# Altium footprint library DIP LCD.PcbLib: 4 footprints
Each footprint in its own frame and in the unit in brackets; x right, y up, seen from the top. Pads: shape width x height; smd on the part's side, far side on the other; paste and mask are expansions set on the pad; w line width, h text height; cw(c..) or ccw(c..) is an arc to the next point about the centre after c.
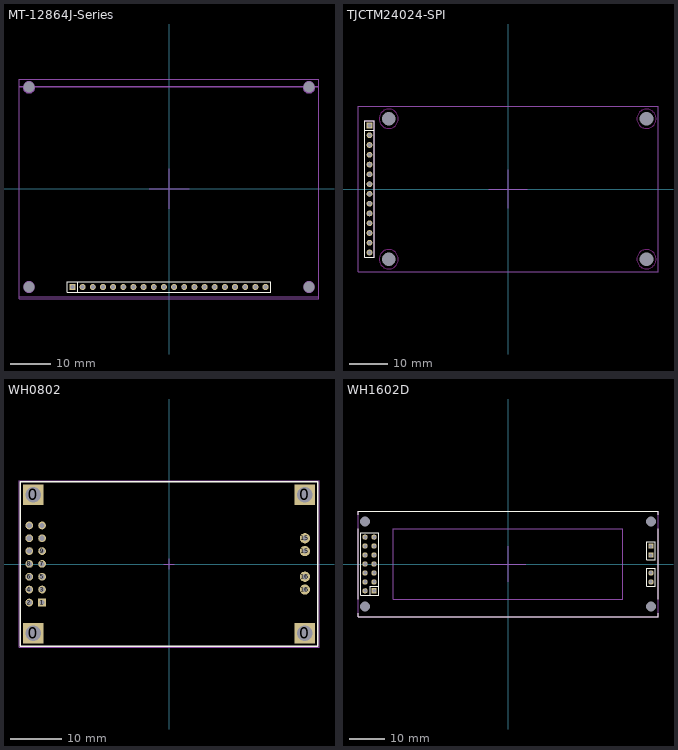
[diagram p0: the footprints below, top view; thin cyan lines are the x and y axes]

## MT-12864J-Series [mm]
height 14
pads (24):
  round 0 hole 2.7 unplated: 0(-35,25.5) 0(-35,-24.5) 0(35,-24.5) 0(35,25.5)
  rect 1.5x1.5 hole 1: 1(-24.13,-24.5)
  round 1.5 hole 1: 2(-21.59,-24.5) 3(-19.05,-24.5) 4(-16.51,-24.5) 5(-13.97,-24.5) 6(-11.43,-24.5) 7(-8.89,-24.5) 8(-6.35,-24.5) 9(-3.81,-24.5) 10(-1.27,-24.5) 11(1.27,-24.5) 12(3.81,-24.5) 13(6.35,-24.5) 14(8.89,-24.5) 15(11.43,-24.5) 16(13.97,-24.5) 17(16.51,-24.5) 18(19.05,-24.5) 19(21.59,-24.5) 20(24.13,-24.5)
Top Overlay:
  lines w0.125: -22.86,-25.77 -22.86,-23.23 ; -25.4,-25.77 25.4,-25.77 25.4,-23.23 -25.4,-23.23 -25.4,-25.77
Mechanical 13:
  lines w0.1: -37.5,-27.5 -37.5,25.5 -36.5,25.5 ccw(c-35,25.5) -33.5,25.5 33.5,25.5 ccw(c35,25.5) 36.5,25.5 37.5,25.5 37.5,-27.5 -37.5,-27.5 ; -37.5,-27 -37.5,25.75 37.5,25.75 37.5,-27 -37.5,-27
Mechanical 15:
  circle w0.1: c-35,25.5 r1.35
  circle w0.1: c35,25.5 r1.35
  circle w0.1: c35,-24.5 r1.35
  circle w0.1: c-35,-24.5 r1.35
  lines w0.1: -5,0 5,0 ; 0,-5 0,5 ; -37.5,-27.5 37.5,-27.5 37.5,27.5 -37.5,27.5 -37.5,-27.5
3D body: height -7.4, standoff -15.9, extent -37.5,-27 37.5,25.7
3D body: height 8.9, standoff -2.9, extent 15.16,-25.77 25.32,-23.23
3D body: height 8.9, standoff -2.9, extent -5.08,-25.77 15.24,-23.23
3D body: height 8.9, standoff -2.9, extent -25.4,-25.77 -5.08,-23.23

## TJCTM24024-SPI [mm]
height 15
pads (18):
  round 0.1 hole 3.6 unplated: 0(-31,-18.25) 0(-31,18.25) 0(36,-18.25) 0(36,18.25)
  rect 1.5x1.5 hole 1: 1(-36,16.51)
  round 1.5 hole 1: 2(-36,13.97) 3(-36,11.43) 4(-36,8.89) 5(-36,6.35) 6(-36,3.81) 7(-36,1.27) 8(-36,-1.27) 9(-36,-3.81) 10(-36,-6.35) 11(-36,-8.89) 12(-36,-11.43) 13(-36,-13.97) 14(-36,-16.51)
Top Overlay:
  lines w0.2: -37.27,15.24 -34.73,15.24 ; -37.27,-17.78 -37.27,17.78 -34.73,17.78 -34.73,-17.78 -37.27,-17.78
Keep-Out Layer:
  circle w0.1: c-31,-18.25 r2.5
  circle w0.1: c-31,18.25 r2.5
  circle w0.1: c36,18.25 r2.5
  circle w0.1: c36,-18.25 r2.5
Mechanical 13:
  lines w0.1: -37.27,15.24 -34.73,15.24 ; -37.27,-17.78 -37.27,17.78 -34.73,17.78 -34.73,-17.78 -37.27,-17.78
Mechanical 15:
  lines w0.1: -5,0 5,0 ; 0,-5 0,5 ; -39,-21.5 39,-21.5 39,21.5 -39,21.5 -39,-21.5

## WH0802 [mm]
height 14
pads (22):
  rect 4x4 hole 3: 0(-26.5,-13.5) 0(-26.5,13.5) 0(26.5,-13.5) 0(26.5,13.5)
  rect 1.5x1.5 hole 1: 1(-24.75,-7.52)
  round 1.5 hole 1: 2(-27.25,-7.52) 3(-24.75,-4.98) 4(-27.25,-4.98) 5(-24.75,-2.48) 6(-27.25,-2.48) 7(-24.75,0.02) 8(-27.25,0.02) 9(-24.75,2.52) 10(-27.25,2.52) 11(-24.75,5.02) 12(-27.25,5.02) 13(-24.75,7.52) 14(-27.25,7.52)
  round 2 hole 1: 15(26.5,2.52) 15(26.5,5.02) 16(26.5,-4.98) 16(26.5,-2.48)
Top Overlay:
  lines w0.25: -29,-16 29,-16 29,16 -29,16 -29,-16
Mechanical 15:
  lines w0.1: -1,0 1,0 ; 0,-1 0,1 ; -29.25,-16.25 29.25,-16.25 29.25,16.25 -29.25,16.25 -29.25,-16.25
3D body: height 16.4, standoff 2.9, extent -29,-16 29,16
3D body: height 8.9, standoff -2.9, extent 25.23,-6.31 27.77,-1.23
3D body: height 8.9, standoff -2.9, extent -26,-8.81 -23.46,-1.19
3D body: height 8.9, standoff -2.9, extent -28.54,-8.81 -26,-1.19
3D body: height 8.9, standoff -2.9, extent -28.54,-1.33 -26,8.83
3D body: height 8.9, standoff -2.9, extent -26,-1.33 -23.46,8.83
3D body: height 8.9, standoff -2.9, extent 25.23,1.19 27.77,6.27

## WH1602D [mm]
height 14
pads (22):
  round 0 hole 2.8 unplated: 0(-40.5,-12) 0(-40.5,12) 0(40.5,-12) 0(40.5,12)
  rect 1.5x1.5 hole 1: 1(-37.96,-7.62) 15(40.5,2.54) 15(40.5,5.08)
  round 1.5 hole 1: 2(-40.5,-7.62) 3(-37.96,-5.08) 4(-40.5,-5.08) 5(-37.96,-2.54) 6(-40.5,-2.54) 7(-37.96,0) 8(-40.5,0) 9(-37.96,2.54) 10(-40.5,2.54) 11(-37.96,5.08) 12(-40.5,5.08) 13(-37.96,7.62) 14(-40.5,7.62) 16(40.5,-5.08) 16(40.5,-2.54)
Top Overlay:
  lines w0.2: -39.23,-8.89 -39.23,-6.35 -36.69,-6.35 ; -41.77,-8.89 -36.69,-8.89 -36.69,8.89 -41.77,8.89 -41.77,-8.89 ; 39.25,-6.25 41.75,-6.25 41.75,-1.25 39.25,-1.25 39.25,-6.25 ; 39.25,1.25 41.75,1.25 41.75,6.25 39.25,6.25 39.25,1.25
  lines w0.25: -42.5,-14 -42.5,-15 42.5,-15 42.5,-14 ; -42.5,-10 -42.5,10 ; -42.5,14 -42.5,15 42.5,15 42.5,14 ; 42.5,-10 42.5,10
Mechanical 13:
  lines w0.1: -42.5,-15 -42.5,15 42.5,15 42.5,-15 -42.5,-15 ; -32.5,-10 -32.5,10 32.5,10 32.5,-10 -32.5,-10
Mechanical 15:
  lines w0.1: -5,0 5,0 ; 0,-5 0,5 ; -42.5,-15 42.5,-15 42.5,15 -42.5,15 -42.5,-15
3D body: height 16.5, standoff 2.2, extent -42.5,-15 42.5,15
3D body: height 8.9, standoff -2.9, extent -41.77,-8.89 -39.23,1.27
3D body: height 8.9, standoff -2.9, extent -41.77,1.27 -39.23,8.89
3D body: height 8.9, standoff -2.9, extent -39.22,-8.89 -36.68,1.27
3D body: height 8.9, standoff -2.9, extent -39.22,1.27 -36.68,8.89
3D body: height 8.9, standoff -2.9, extent 39.23,-6.29 41.77,-1.21
3D body: height 8.9, standoff -2.9, extent 39.23,1.21 41.77,6.29